# Altium footprint library Relays.PcbLib: 5 footprints
Each footprint in its own frame and in the unit in brackets; x right, y up, seen from the top. Pads: shape width x height; smd on the part's side, far side on the other; paste and mask are expansions set on the pad; w line width, h text height; cw(c..) or ccw(c..) is an arc to the next point about the centre after c.
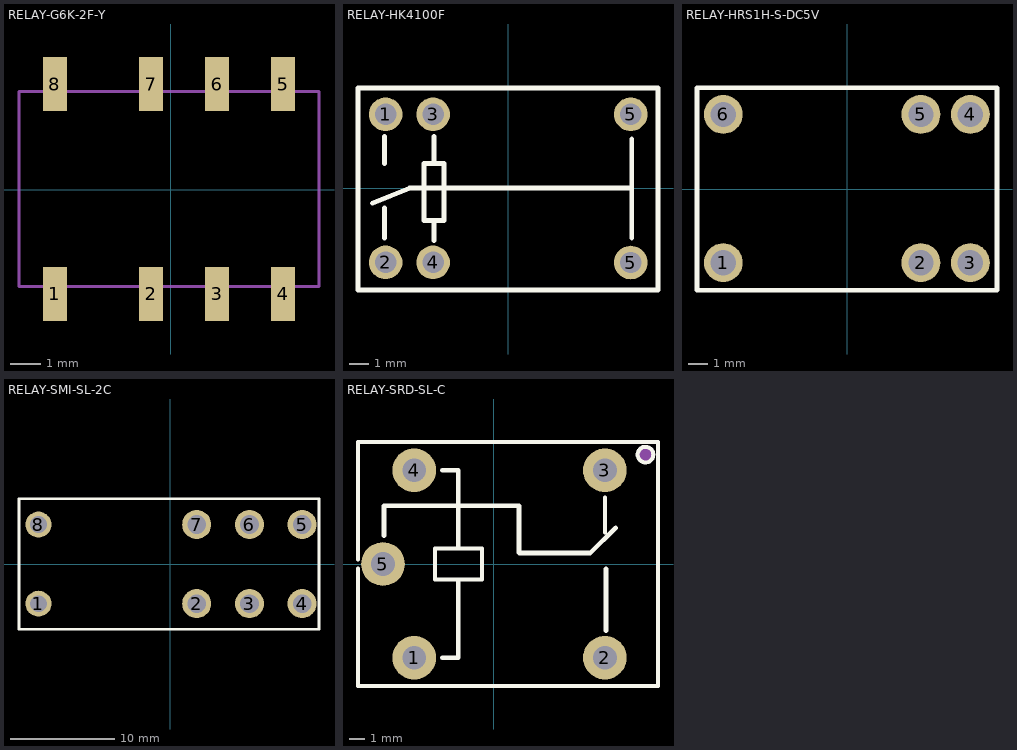
[diagram p0: the footprints below, top view; thin cyan lines are the x and y axes]

## RELAY-G6K-2F-Y [mm] "欧娒龙超小型信号继电器"
pads (8):
  rect 0.8x1.8 smd mask+0.05: 1(-3.85,-3.47) 2(-0.65,-3.47) 3(1.55,-3.47) 4(3.75,-3.47) 5(3.75,3.53) 6(1.55,3.53) 7(-0.65,3.53) 8(-3.85,3.53)
Mechanical 3:
  lines w0.1: -5.05,-3.22 4.95,-3.22 4.95,3.28 -5.05,3.28 -5.05,-3.22
3D body "User Library-G6K_2F.STEP": height 5.2, standoff 0, extent -5.05,-3.88 4.95,3.94

## RELAY-HK4100F [mil] "小型中功率继电器"
pads (6):
  round 68 hole 43.31 mask+2: 1(-248.05,150) 2(-248.05,-149.6) 3(-151.95,150) 4(-151.95,-149.7) 5(248.05,-150) 5(248.05,150)
Top Overlay:
  lines w10: -275,-30 -200,0.45 250,0.45 ; -250,-100 -250,-40 ; -250,50 -250,105 ; -150,-105 -150,-70 ; -150,55 -150,105 ; 250,-100 250,100 ; -303.94,-205.51 -303.94,203.15 303.15,203.15 303.15,-205.51 -303.94,-205.51 ; -170,-65 -130,-65 -130,50 -170,50 -170,-65
3D body "Relay -HK4100F-DC5V-SHG.stp": height 453, standoff -151, extent -301.71,-204 303.29,204

## RELAY-HRS1H-S-DC5V [mm] "HK小型继电器"
pads (6):
  round 2 hole 1.3: 1(-6.359,-3.786) 2(3.801,-3.786) 3(6.341,-3.786) 4(6.341,3.834) 5(3.801,3.834) 6(-6.359,3.834)
Top Overlay:
  lines w0.254: -7.71,-5.205 -7.71,5.195 ; -7.71,5.205 7.69,5.205 ; -7.69,-5.205 7.71,-5.205 ; 7.71,-5.195 7.71,5.205
3D body "HRS1H-SDC5V.x_t": height 11.9, standoff -5, extent -7.72,-5.205 7.78,5.295

## RELAY-SMI-SL-2C [mm] "松乐SMI-05VDC-SL-2C继电器"
pads (8):
  round 2.5 hole 1.6: 1(-12.7,-3.81) 8(-12.7,3.81)
  round 2.8 hole 1.8: 2(2.54,-3.81) 3(7.62,-3.81) 4(12.7,-3.81) 5(12.7,3.81) 6(7.62,3.81) 7(2.54,3.81)
Top Overlay:
  lines w0.254: -14.577,-6.29 -14.577,6.31 14.323,6.31 14.323,-6.29 -14.577,-6.29
3D body "User Library-SMI-05VDC-SD-2C.STEP": height 20.6, standoff -3.5, extent -14.6,-6.5 14.6,6.5

## RELAY-SRD-SL-C [mil] "松乐SRD-05VDC-SL-C继电器"
pads (5):
  round 110 hole 60: 1(-200.79,-236.22) 2(279.52,-236.2) 3(279.53,236.2) 4(-200.79,236.22) 5(-279.53,0)
Top Overlay:
  circle w10: c381.89,275.61 r19.69
  lines w10: -342.49,-11.6 -342.49,-307.09 413.43,-307.09 ; -342.49,11.6 -342.49,307.09 413.42,307.09 413.43,-307.09 ; 279.5,79.5 279.5,167.2 ; -148.62,-39.37 -148.62,39.37 -30.51,39.37 -30.51,-39.37 -148.62,-39.37
  lines w11.81: -276.84,70.87 -276.84,146.74 63.16,146.74 63.16,28.63 64.11,27.68 222.22,27.68 242.22,27.68 ; -130.31,-236.22 -90.24,-236.22 -90.24,-41.39 ; -130.31,236.22 -90.24,236.22 -90.24,41.37 ; 242.13,27.6 307.11,90.9 ; 282.22,-167.6 282.22,-12.3
Mechanical 15:
  circle w19.68: c381.89,275.61 r9.84
3D body "User Library-SRD-05VDC-SL-C.step": height 606.3, standoff -196.85, extent -339.37,-308.66 412.6,301.57